# Altium schematic symbol library Schlib1.SchLib: 6 symbols
Pins are listed as number, name and electrical type; pins without a type are passive.

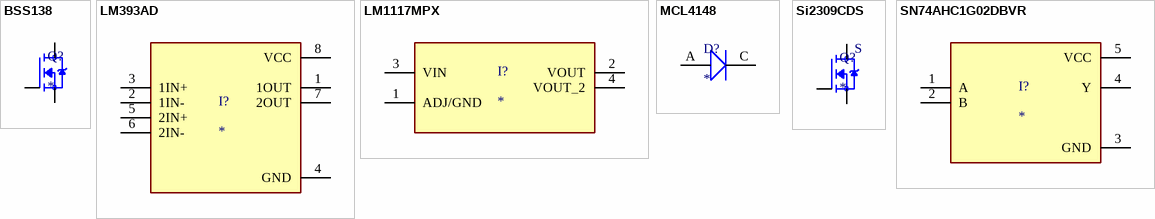
[diagram p0: symbols BSS138 to SN74AHC1G02DBVR]

## BSS138
designator Q?
footprint BSS138
pins: 1 G (oc), 2 S (oc), 3 D (oc)

## LM393AD
designator I?
footprint PCBComponent_1
pins: 1 1OUT (oc), 2 1IN- (oc), 3 1IN+ (oc), 4 GND (oc), 5 2IN+ (oc), 6 2IN- (oc), 7 2OUT (oc), 8 VCC (oc)

## LM1117MPX
designator I?
footprint LM1117
pins: 1 ADJ/GND (oc), 2 VOUT (oc), 3 VIN (oc), 4 VOUT_2 (oc)

## MCL4148
designator D?
footprint MC4148
pins: A (oc), C K (oc)

## Si2309CDS
designator Q?
footprint BSS138
pins: 1 G (oc), 2 S (oc), 3 D (oc)

## SN74AHC1G02DBVR
designator I?
footprint PCBComponent_1 - duplicate
pins: 1 A (oc), 2 B (oc), 3 GND (oc), 4 Y (oc), 5 VCC (oc)